# EAGLE library part FS24-045-C2 (library SamacSys_Parts)
Power Transformers Power Transformer, PC Mount, Class 2/3, 8Pin, 1.1 V A, 12/24VDC (Nominal Secondary) Output, Primary Input, 24VDC CT at 0.045A Secondary in Series, 12VDC at 0.09A Secondary in Parallel Source: Datasheet <https://componentsearchengine.com/Datasheets/1/FS24-045-C2.pdf>
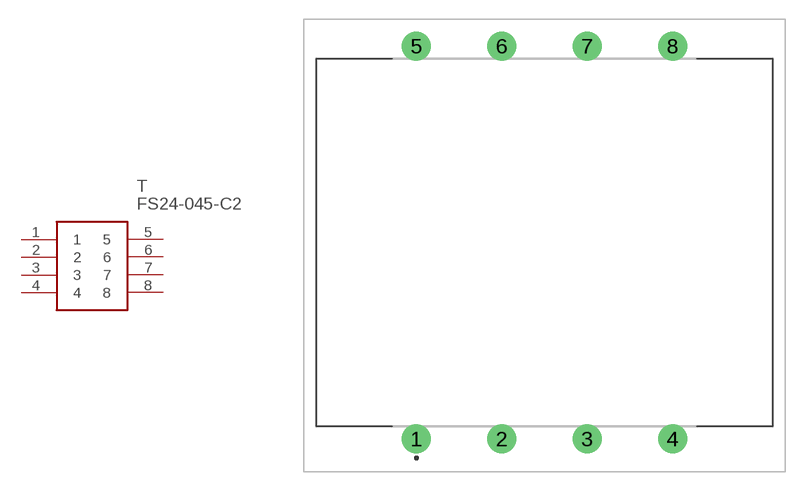
[diagram p2: symbol with the pads of FS24045C2; footprint FS24045C2]

Designator prefix T

## FS24-045-C2 (Description: Power Transformers Power Transformer, PC Mount, Class 2/3, 8Pin, 1.1 V A, 12/24VDC (Nominal Secondary) Output, Primary Input, 24VDC CT at 0.045A Secondary in Series, 12VDC at 0.09A Secondary in Parallel; Height: 28mm; Manufacturer_Name: Triad Magnetics; Manufacturer_Part_Number: FS24-045-C2; Mouser_Part_Number: 553-FS24-045-C2; Mouser_Price-Stock: https://www.mouser.com/Search/Refine.aspx?Keyword=553-FS24-045-C2)  [FS24045C2]
1  1
2  2
3  3
4  4
5  5
6  6
7  7
8  8

## Footprint FS24045C2 (pad centres in mm)
FS24
drill 1.524 pad 2.286: 1 -10.096,-15.272; 2 -3.365,-15.272; 3 3.365,-15.272; 4 10.096,-15.272; 5 -10.096,15.729; 6 -3.365,15.729; 7 3.365,15.729; 8 10.096,15.729